# EAGLE library part 13FLZ-SM1 (library con-jst)
CONNECTOR
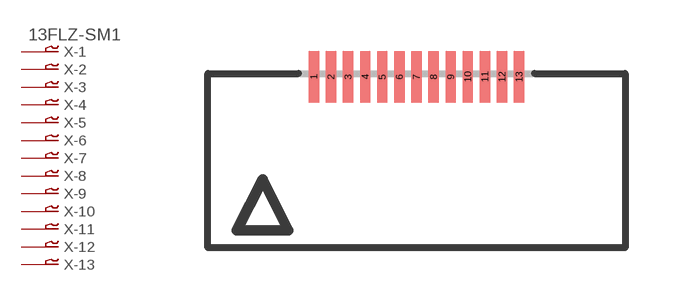
[diagram p8: symbol with the pads of 13FLZ-SM; footprint 13FLZ-SM]

Designator prefix X; gates -1=P-VN -2=P-N -3=P-N -4=P-N -5=P-N -6=P-N -7=P-N -8=P-N -9=P-N -10=P-N -11=P-N -12=P-N -13=P-N

## 13FLZ-SM1  [13FLZ-SM]
1  -1:1  pas
2  -2:1  pas
3  -3:1  pas
4  -4:1  pas
5  -5:1  pas
6  -6:1  pas
7  -7:1  pas
8  -8:1  pas
9  -9:1  pas
10  -10:1  pas
11  -11:1  pas
12  -12:1  pas
13  -13:1  pas

## Footprint 13FLZ-SM (pad centres in mm)
CONNECTOR
smd 0.3 x 1.5: 1 -3,2.5; 2 -2.5,2.5; 3 -2,2.5; 4 -1.5,2.5; 5 -1,2.5; 6 -0.5,2.5; 7 0,2.5; 8 0.5,2.5; 9 1,2.5; 10 1.5,2.5; 11 2,2.5; 12 2.5,2.5; 13 3,2.5